# EAGLE library part LPC4300_TFBGA180 (library LPC4300)
TFBGA180 - SOT570-3 TFBGA180: thin fine-pitch ball grid array package; 180 balls body 12 x 12 x 0.8 mm; Solderland 0.4 mm diameter Grid 0.8 x 0.8 mm
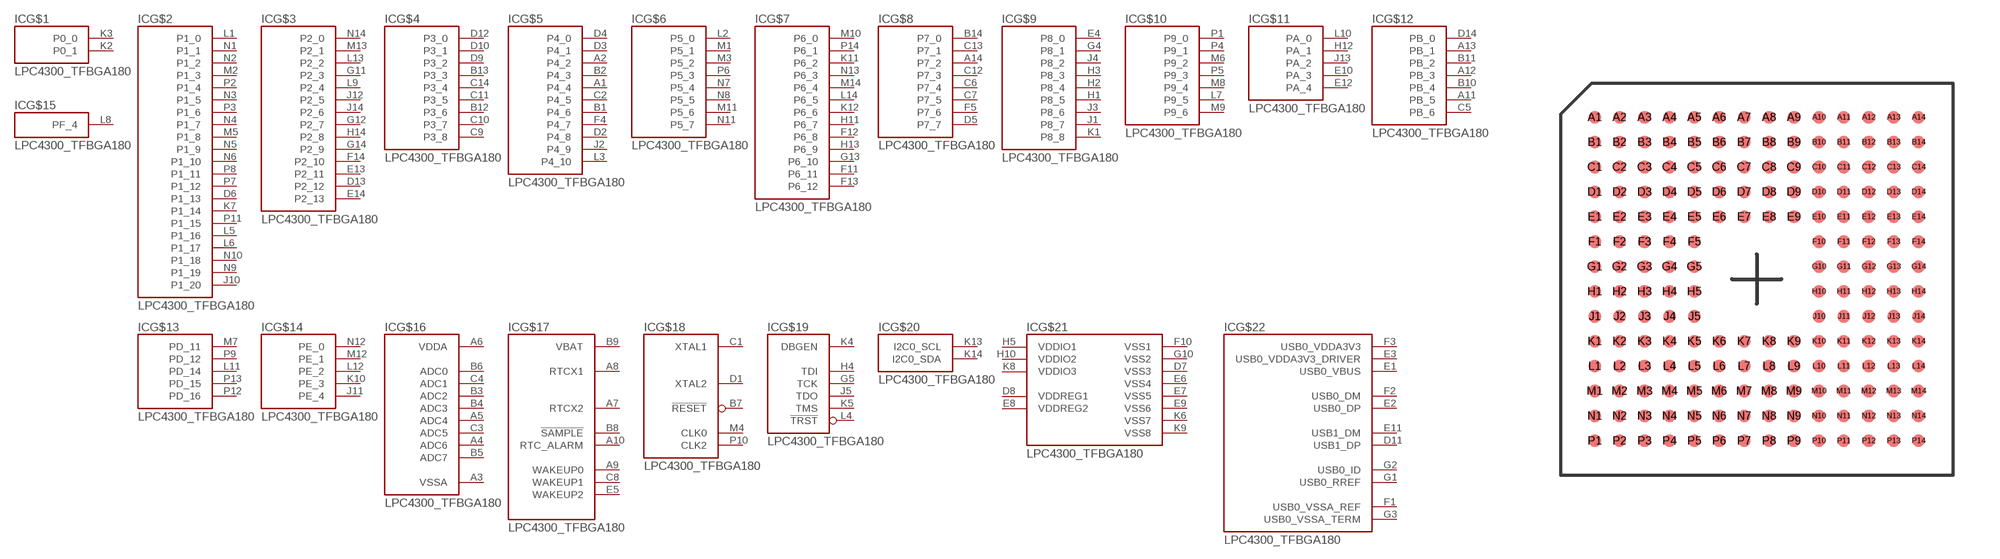
[diagram p2: symbol with the pads of TFBGA180; footprint TFBGA180]

Designator prefix IC; gates G$1=180_1_PORT0 G$2=180_2_PORT1 G$3=180_3_PORT2 G$4=180_4_PORT3 G$5=180_5_PORT4 G$6=180_6_PORT5 G$7=180_7_PORT6 G$8=180_8_PORT7 G$9=180_9_PORT8 G$10=180_10_PORT9 G$11=180_11_PORTA G$12=180_12_PORTB G$13=180_14_PORTD G$14=180_15_PORTE G$15=180_16_PORTF G$16=180_17_ANA G$17=180_18_RTC G$18=180_19_CLK G$19=180_20_DBUG G$20=180_21_I2C G$21=180_22_SUP G$22=180_23_USB

## LPC4300_TFBGA180  [TFBGA180]
A1  G$5:P4_4
A2  G$5:P4_2
A3  G$16:VSSA  sup
A4  G$16:ADC6  in
A5  G$16:ADC4  in
A6  G$16:VDDA  sup
A7  G$17:RTCX2  out
A8  G$17:RTCX1  in
A9  G$17:WAKEUP0  in
A10  G$17:RTC_ALARM  out
A11  G$12:PB_5
A12  G$12:PB_3
A13  G$12:PB_1
A14  G$8:P7_2
B1  G$5:P4_6
B2  G$5:P4_3
B3  G$16:ADC2  in
B4  G$16:ADC3  in
B5  G$16:ADC7  in
B6  G$16:ADC0  in
B7  G$18:!RESET  in
B8  G$17:!SAMPLE  out
B9  G$17:VBAT  pwr
B10  G$12:PB_4
B11  G$12:PB_2
B12  G$4:P3_6
B13  G$4:P3_3
B14  G$8:P7_0
C1  G$18:XTAL1  in
C2  G$5:P4_5
C3  G$16:ADC5  in
C4  G$16:ADC1  in
C5  G$12:PB_6
C6  G$8:P7_4
C7  G$8:P7_5
C8  G$17:WAKEUP1  in
C9  G$4:P3_8
C10  G$4:P3_7
C11  G$4:P3_5
C12  G$8:P7_3
C13  G$8:P7_1
C14  G$4:P3_4
D1  G$18:XTAL2  out
D2  G$5:P4_8
D3  G$5:P4_1
D4  G$5:P4_0
D5  G$8:P7_7
D6  G$2:P1_13
D7  G$21:VSS3  sup
D8  G$21:VDDREG1  sup
D9  G$4:P3_2
D10  G$4:P3_1
D11  G$22:USB1_DP
D12  G$4:P3_0
D13  G$3:P2_12
D14  G$12:PB_0
E1  G$22:USB0_VBUS
E2  G$22:USB0_DP
E3  G$22:USB0_VDDA3V3_DRIVER
E4  G$9:P8_0
E5  G$17:WAKEUP2  in
E6  G$21:VSS4  sup
E7  G$21:VSS5  sup
E8  G$21:VDDREG2  sup
E9  G$21:VSS6  sup
E10  G$11:PA_3
E11  G$22:USB1_DM
E12  G$11:PA_4
E13  G$3:P2_11
E14  G$3:P2_13
F1  G$22:USB0_VSSA_REF
F2  G$22:USB0_DM
F3  G$22:USB0_VDDA3V3
F4  G$5:P4_7
F5  G$8:P7_6
F10  G$21:VSS1  sup
F11  G$7:P6_11
F12  G$7:P6_8
F13  G$7:P6_12
F14  G$3:P2_10
G1  G$22:USB0_RREF
G2  G$22:USB0_ID
G3  G$22:USB0_VSSA_TERM
G4  G$9:P8_1
G5  G$19:TCK
G10  G$21:VSS2  sup
G11  G$3:P2_3
G12  G$3:P2_7
G13  G$7:P6_10
G14  G$3:P2_9
H1  G$9:P8_5
H2  G$9:P8_4
H3  G$9:P8_3
H4  G$19:TDI
H5  G$21:VDDIO1  sup
H10  G$21:VDDIO2  sup
H11  G$7:P6_7
H12  G$11:PA_1
H13  G$7:P6_9
H14  G$3:P2_8
J1  G$9:P8_7
J2  G$5:P4_9
J3  G$9:P8_6
J4  G$9:P8_2
J5  G$19:TDO
J10  G$2:P1_20
J11  G$14:PE_4
J12  G$3:P2_5
J13  G$11:PA_2
J14  G$3:P2_6
K1  G$9:P8_8  sup
K2  G$1:P0_1
K3  G$1:P0_0
K4  G$19:DBGEN  in
K5  G$19:TMS
K6  G$21:VSS7  sup
K7  G$2:P1_14
K8  G$21:VDDIO3  sup
K9  G$21:VSS8  sup
K10  G$14:PE_3
K11  G$7:P6_2
K12  G$7:P6_6
K13  G$20:I2C0_SCL
K14  G$20:I2C0_SDA
L1  G$2:P1_0
L2  G$6:P5_0
L3  G$5:P4_10
L4  G$19:!TRST
L5  G$2:P1_16
L6  G$2:P1_17
L7  G$10:P9_5
L8  G$15:PF_4
L9  G$3:P2_4
L10  G$11:PA_0
L11  G$13:PD_14
L12  G$14:PE_2
L13  G$3:P2_2
L14  G$7:P6_5
M1  G$6:P5_1
M2  G$2:P1_3
M3  G$6:P5_2
M4  G$18:CLK0  out
M5  G$2:P1_8
M6  G$10:P9_2
M7  G$13:PD_11
M8  G$10:P9_4
M9  G$10:P9_6
M10  G$7:P6_0
M11  G$6:P5_6
M12  G$14:PE_1
M13  G$3:P2_1
M14  G$7:P6_4
N1  G$2:P1_1
N2  G$2:P1_2
N3  G$2:P1_5
N4  G$2:P1_7
N5  G$2:P1_9
N6  G$2:P1_10
N7  G$6:P5_4
N8  G$6:P5_5
N9  G$2:P1_19
N10  G$2:P1_18
N11  G$6:P5_7
N12  G$14:PE_0
N13  G$7:P6_3
N14  G$3:P2_0
P1  G$10:P9_0
P2  G$2:P1_4
P3  G$2:P1_6
P4  G$10:P9_1
P5  G$10:P9_3
P6  G$6:P5_3
P7  G$2:P1_12
P8  G$2:P1_11
P9  G$13:PD_12
P10  G$18:CLK2  out
P11  G$2:P1_15
P12  G$13:PD_16
P13  G$13:PD_15
P14  G$7:P6_1

## Footprint TFBGA180 (pad centres in mm)
TFBGA180 - SOT570-3 TFBGA180: thin fine-pitch ball grid array package; 180 balls body 12 x 12 x 0.8 mm; Solderland 0.4 mm diameter Grid 0.8 x 0.8 mm
smd 0.4 x 0.4: A1 -5.2,5.2; A2 -4.4,5.2; A3 -3.6,5.2; A4 -2.8,5.2; A5 -2,5.2; A6 -1.2,5.2; A7 -0.4,5.2; A8 0.4,5.2; A9 1.2,5.2; A10 2,5.2; A11 2.8,5.2; A12 3.6,5.2; A13 4.4,5.2; A14 5.2,5.2; B1 -5.2,4.4; B2 -4.4,4.4; B3 -3.6,4.4; B4 -2.8,4.4; B5 -2,4.4; B6 -1.2,4.4; B7 -0.4,4.4; B8 0.4,4.4; B9 1.2,4.4; B10 2,4.4; B11 2.8,4.4; B12 3.6,4.4; B13 4.4,4.4; B14 5.2,4.4; C1 -5.2,3.6; C2 -4.4,3.6; C3 -3.6,3.6; C4 -2.8,3.6; C5 -2,3.6; C6 -1.2,3.6; C7 -0.4,3.6; C8 0.4,3.6; C9 1.2,3.6; C10 2,3.6; C11 2.8,3.6; C12 3.6,3.6; C13 4.4,3.6; C14 5.2,3.6; D1 -5.2,2.8; D2 -4.4,2.8; D3 -3.6,2.8; D4 -2.8,2.8; D5 -2,2.8; D6 -1.2,2.8; D7 -0.4,2.8; D8 0.4,2.8; D9 1.2,2.8; D10 2,2.8; D11 2.8,2.8; D12 3.6,2.8; D13 4.4,2.8; D14 5.2,2.8; E1 -5.2,2; E2 -4.4,2; E3 -3.6,2; E4 -2.8,2; E5 -2,2; E6 -1.2,2; E7 -0.4,2; E8 0.4,2; E9 1.2,2; E10 2,2; E11 2.8,2; E12 3.6,2; E13 4.4,2; E14 5.2,2; F1 -5.2,1.2; F2 -4.4,1.2; F3 -3.6,1.2; F4 -2.8,1.2; F5 -2,1.2; F10 2,1.2; F11 2.8,1.2; F12 3.6,1.2; F13 4.4,1.2; F14 5.2,1.2; G1 -5.2,0.4; G2 -4.4,0.4; G3 -3.6,0.4; G4 -2.8,0.4; G5 -2,0.4; G10 2,0.4; G11 2.8,0.4; G12 3.6,0.4; G13 4.4,0.4; G14 5.2,0.4; H1 -5.2,-0.4; H2 -4.4,-0.4; H3 -3.6,-0.4; H4 -2.8,-0.4; H5 -2,-0.4; H10 2,-0.4; H11 2.8,-0.4; H12 3.6,-0.4; H13 4.4,-0.4; H14 5.2,-0.4; J1 -5.2,-1.2; J2 -4.4,-1.2; J3 -3.6,-1.2; J4 -2.8,-1.2; J5 -2,-1.2; J10 2,-1.2; J11 2.8,-1.2; J12 3.6,-1.2; J13 4.4,-1.2; J14 5.2,-1.2; K1 -5.2,-2; K2 -4.4,-2; K3 -3.6,-2; K4 -2.8,-2; K5 -2,-2; K6 -1.2,-2; K7 -0.4,-2; K8 0.4,-2; K9 1.2,-2; K10 2,-2; K11 2.8,-2; K12 3.6,-2; K13 4.4,-2; K14 5.2,-2; L1 -5.2,-2.8; L2 -4.4,-2.8; L3 -3.6,-2.8; L4 -2.8,-2.8; L5 -2,-2.8; L6 -1.2,-2.8; L7 -0.4,-2.8; L8 0.4,-2.8; L9 1.2,-2.8; L10 2,-2.8; L11 2.8,-2.8; L12 3.6,-2.8; L13 4.4,-2.8; L14 5.2,-2.8; M1 -5.2,-3.6; M2 -4.4,-3.6; M3 -3.6,-3.6; M4 -2.8,-3.6; M5 -2,-3.6; M6 -1.2,-3.6; M7 -0.4,-3.6; M8 0.4,-3.6; M9 1.2,-3.6; M10 2,-3.6; M11 2.8,-3.6; M12 3.6,-3.6; M13 4.4,-3.6; M14 5.2,-3.6; N1 -5.2,-4.4; N2 -4.4,-4.4; N3 -3.6,-4.4; N4 -2.8,-4.4; N5 -2,-4.4; N6 -1.2,-4.4; N7 -0.4,-4.4; N8 0.4,-4.4; N9 1.2,-4.4; N10 2,-4.4; N11 2.8,-4.4; N12 3.6,-4.4; N13 4.4,-4.4; N14 5.2,-4.4; P1 -5.2,-5.2; P2 -4.4,-5.2; P3 -3.6,-5.2; P4 -2.8,-5.2; P5 -2,-5.2; P6 -1.2,-5.2; P7 -0.4,-5.2; P8 0.4,-5.2; P9 1.2,-5.2; P10 2,-5.2; P11 2.8,-5.2; P12 3.6,-5.2; P13 4.4,-5.2; P14 5.2,-5.2